# EAGLE library part STM32F051X6 (library pi3_hat)
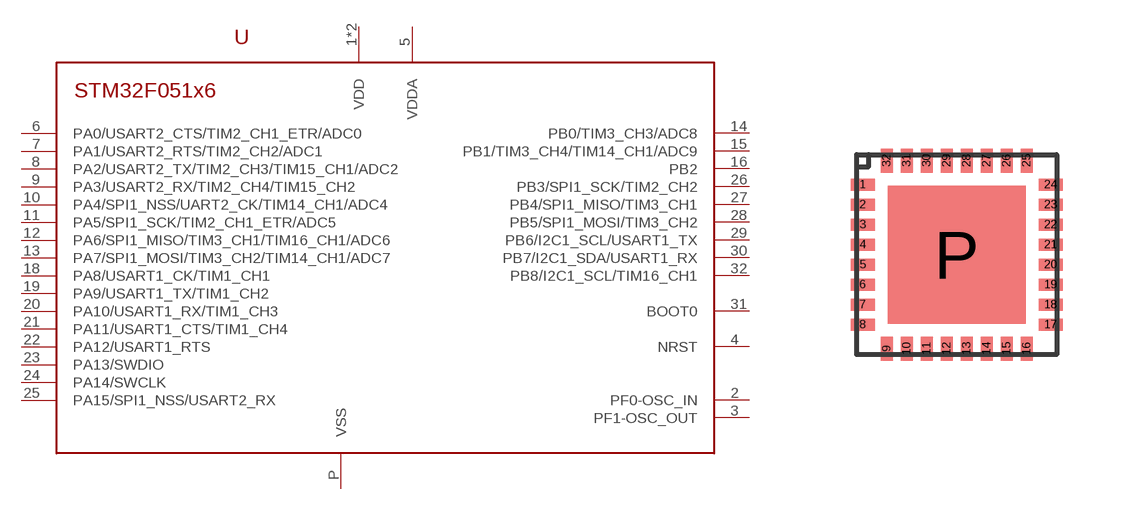
[diagram p3: symbol with the pads of UFQFPN32; footprint UFQFPN32]

Designator prefix U

## STM32F051X6UFQFPN32  [UFQFPN32]
1  VDD
2  PF0-OSC_IN
3  PF1-OSC_OUT
4  NRST
5  VDDA
6  PA0/USART2_CTS/TIM2_CH1_ETR/ADC0
7  PA1/USART2_RTS/TIM2_CH2/ADC1
8  PA2/USART2_TX/TIM2_CH3/TIM15_CH1/ADC2
9  PA3/USART2_RX/TIM2_CH4/TIM15_CH2
10  PA4/SPI1_NSS/UART2_CK/TIM14_CH1/ADC4
11  PA5/SPI1_SCK/TIM2_CH1_ETR/ADC5
12  PA6/SPI1_MISO/TIM3_CH1/TIM16_CH1/ADC6
13  PA7/SPI1_MOSI/TIM3_CH2/TIM14_CH1/ADC7
14  PB0/TIM3_CH3/ADC8
15  PB1/TIM3_CH4/TIM14_CH1/ADC9
16  PB2
17  VDD
18  PA8/USART1_CK/TIM1_CH1
19  PA9/USART1_TX/TIM1_CH2
20  PA10/USART1_RX/TIM1_CH3
21  PA11/USART1_CTS/TIM1_CH4
22  PA12/USART1_RTS
23  PA13/SWDIO
24  PA14/SWCLK
25  PA15/SPI1_NSS/USART2_RX
26  PB3/SPI1_SCK/TIM2_CH2
27  PB4/SPI1_MISO/TIM3_CH1
28  PB5/SPI1_MOSI/TIM3_CH2
29  PB6/I2C1_SCL/USART1_TX
30  PB7/I2C1_SDA/USART1_RX
31  BOOT0
32  PB8/I2C1_SCL/TIM16_CH1
P  VSS

## Footprint UFQFPN32 (pad centres in mm)
smd 0.6 x 0.3: 1 -2.35,1.75; 2 -2.35,1.25; 3 -2.35,0.75; 4 -2.35,0.25; 5 -2.35,-0.25; 6 -2.35,-0.75; 7 -2.35,-1.25; 8 -2.35,-1.75; 17 2.35,-1.75; 18 2.35,-1.25; 19 2.35,-0.75; 20 2.35,-0.25; 21 2.35,0.25; 22 2.35,0.75; 23 2.35,1.25; 24 2.35,1.75
smd 0.3 x 0.6: 9 -1.75,-2.35; 10 -1.25,-2.35; 11 -0.75,-2.35; 12 -0.25,-2.35; 13 0.25,-2.35; 14 0.75,-2.35; 15 1.25,-2.35; 16 1.75,-2.35; 25 1.75,2.35; 26 1.25,2.35; 27 0.75,2.35; 28 0.25,2.35; 29 -0.25,2.35; 30 -0.75,2.35; 31 -1.25,2.35; 32 -1.75,2.35
smd 3.45 x 3.45: P 0,0